# EAGLE library part BAV99DW (library Diodes)
DIODE ARRAY GP 75V 215MA SOT363
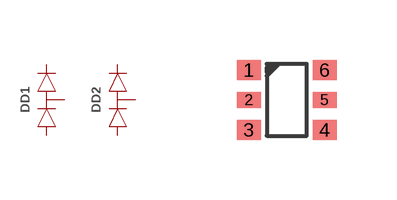
[diagram p1: symbol with the pads of SOT363; footprint SOT363]

Designator prefix D; gates D2=D-HALFBRIDGE D1=D-HALFBRIDGE

## BAV99DW (DIGIKEY#: BAV99DW-FDICT-ND; MANF: Diodes Incorporated; MANF#: BAV99DW-7-F)  [SOT363]
1  D1:A  pas
2  D1:C  pas
3  D2:COMMON
4  D2:A  pas
5  D2:C  pas
6  D1:COMMON

## Footprint SOT363 (pad centres in mm)
smd 0.6 x 0.5: 1 -0.95,0.75; 3 -0.95,-0.75; 4 0.95,-0.75; 6 0.95,0.75
smd 0.6 x 0.4: 2 -0.95,0; 5 0.95,0